# Altium integrated library Maxim Digital Potentiometers.IntLib: 1045 symbols (part 36 of 42)
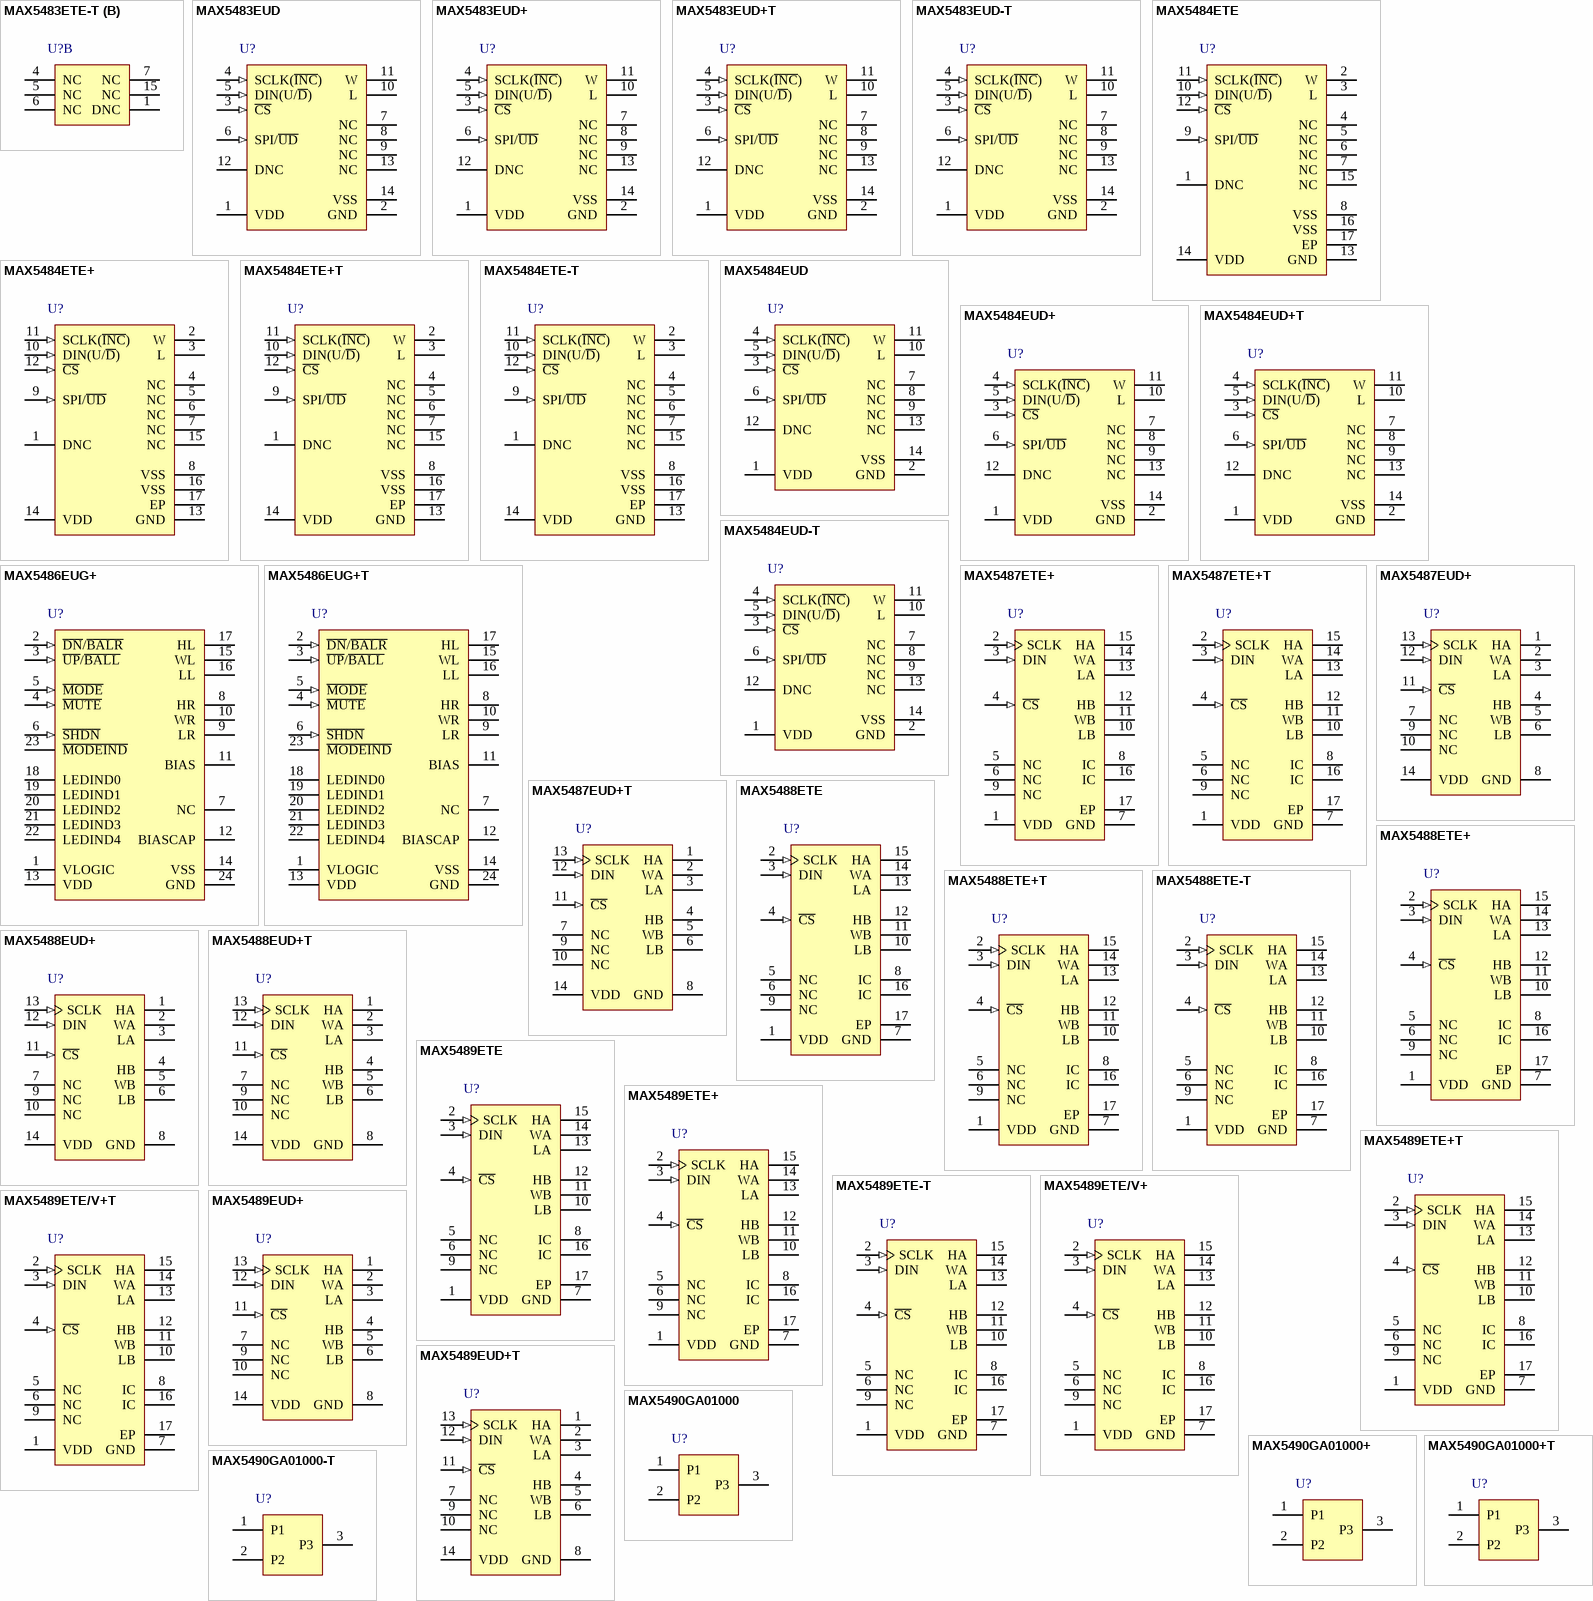
[diagram p64: symbols MAX5483ETE-T to MAX5490GA01000-T]

## MAX5486EUG+T
designator U?
Stereo Volume LED Display Drivers with Debounced Pushbutton Up/Down Control Interface, Volatile, Log Taper, 32 Steps, -40 to 85 degC, 24-pin TSSOP (U24+1), Pb-Free, Tape and Reel; PartNumber: MAX5486EUG+T; Industry Qualified: Automotive - General; DatasheetVersion: Rev. 0; PackageVersion: Rev. L, 07/2010; PackageReference: U24+1; PackageDescription: 24-Pin Thin Shrink Small-Outline Package (U24+1), Body 7.8 x 4.4 mm, Pitch 0.65 mm; Supplier 1: Digi-Key; Supplier Part Number 1: MAX5486EUG+T-ND; Supplier 2: Mouser; Supplier Part Number 2: 700-MAX5486EUGT; Applications: Audio Control, Automotive Back-Seat Multimedia ,Car Stereo ,Desktop Speakers ,Multimedia Docking Stations ,Portable Audio ,Set-Top Boxes ,Stereo Volume Control; Control Interface: Debounced Pushbutton Up/Down; Features: Buffered Wiper Outputs, Debounced Pushbutton Controls ,Five-Segment LED Display Driver; Mounting Technology: Surface Mount; Code_JEDEC: MO-153; ComponentLink1Description: Manufacturer URL; ComponentLink1URL: http://www.maximintegrated.com/; ComponentLink2Description: Datasheet; ComponentLink2URL: http://datasheets.maximintegrated.com/en/ds/MAX5486.pdf; ComponentLink3Description: Package Specification; ComponentLink3URL: http://pdfserv.maximintegrated.com/package_dwgs/21-0066.PDF
footprint MAXM-U24+1_N (SOP, 24-Leads, Body 7.8x4.4mm, Pitch 0.65mm, IPC Medium Density)
footprint MAXM-U24+1_L (SOP, 24-Leads, Body 7.8x4.4mm, Pitch 0.65mm, IPC High Density)
footprint MAXM-U24+1_M (SOP, 24-Leads, Body 7.8x4.4mm, Pitch 0.65mm, IPC Low Density)
pins: 1 VLOGIC (power) "Digital Logic Power Supply. Bypass VLOGIC to ground with a 0.1uF capacitor as close as possible to the device.", 2 ~{DN}/~{BALR} (in) "Active-Low Downward Volume/Balance Control. Press D\N\/B\A\L\R\ to decrease the volume in volume mode and move balance to the right in balance mode. D\N\/B\A\L\R\ is internally pulled high with a resistor to VLOGIC.", 3 ~{UP}/~{BALL} (in) "Active-Low Upward Volume/Balance Control. Press U\P\/B\A\L\L\ to increase the volume in volume mode and move balance to the left in balance mode. U\P\/B\A\L\L\ is internally pulled high with a resistor to VLOGIC.", 4 ~{MUTE} (in) "Active-Low Mute Input. Pull M\U\T\E\ low to toggle the wiper between the mute setting (see Table 1) and the current setting. M\U\T\E\ is internally pulled up to VLOGIC with a resistor.", 5 ~{MODE} (in) "Active-Low Volume/Balance Control Input. Each high-to-low transition on M\O\D\E\ toggles between the volume and balance modes. M\O\D\E\ is pulled high internally with a resistor to VLOGIC. On power-up, the MAX5486 is in (See Datasheet)", 6 ~{SHDN} (in) "Active-Low Shutdown Input. Drive S\H\D\N\ low to place the device in shutdown mode. In shutdown mode, the MAX5486 stores the last wiper settings. The wipers move to the L_ end of the resistor string. Terminating the shutdown (See Datasheet)", 7 NC "Internally connected. Leave unconnected.", 8 HR "Potentiometer R High Terminal", 9 LR "Potentiometer R Low Terminal", 10 WR "Potentiometer R Wiper Buffered Output", 11 BIAS "Midbias Voltage Output. VBIAS = (VDD + VSS) / 2; connect a 100pF capacitor from BIAS to VSS.", 12 BIASCAP "Bias Generator Bypass. Connect a 1uF filter capacitor from BIASCAP to VSS.", 13 VDD (power) "Analog Power Supply. Bypass VDD to ground with a 0.1uF capacitor as close as possible to the device.", 14 VSS (power) "Negative Power Supply. Bypass VSS to ground with a 0.1uF capacitor as close as possible to the device. Connect to GND for single supply operation.", 15 WL "Potentiometer L Wiper Buffered Output", 16 LL "Potentiometer L Low Terminal", 17 HL "Potentiometer L High Terminal", 18 LEDIND0 (oc) "LED Indicator Open-Drain Output 0-LED Indicator Open-Drain Output 4. Connect a 1Mohm resistor from LEDIND4 to VLOGIC to enable these LED inductor drivers. LEDIND0-LEDIND4 form a bar graph indication of the current volume or (See Datasheet)", 19 LEDIND1 (oc) "LED Indicator Open-Drain Output 0-LED Indicator Open-Drain Output 4. Connect a 1Mohm resistor from LEDIND4 to VLOGIC to enable these LED inductor drivers. LEDIND0-LEDIND4 form a bar graph indication of the current volume or (See Datasheet)", 20 LEDIND2 (oc) "LED Indicator Open-Drain Output 0-LED Indicator Open-Drain Output 4. Connect a 1Mohm resistor from LEDIND4 to VLOGIC to enable these LED inductor drivers. LEDIND0-LEDIND4 form a bar graph indication of the current volume or (See Datasheet)", 21 LEDIND3 (oc) "LED Indicator Open-Drain Output 0-LED Indicator Open-Drain Output 4. Connect a 1Mohm resistor from LEDIND4 to VLOGIC to enable these LED inductor drivers. LEDIND0-LEDIND4 form a bar graph indication of the current volume or (See Datasheet)", 22 LEDIND4 (oc) "LED Indicator Open-Drain Output 0-LED Indicator Open-Drain Output 4. Connect a 1Mohm resistor from LEDIND4 to VLOGIC to enable these LED inductor drivers. LEDIND0-LEDIND4 form a bar graph indication of the current volume or (See Datasheet)", 23 ~{MODEIND} (oc) "Active-Low Volume-Control/Balance-Control Mode-Indicator Open-Drain Output. Connect to an LED through a resistor to VLOGIC. When the LED is on, the MAX5486 is in balance-control mode. When the LED is off, the MAX5486 is in (See Datasheet)", 24 GND (power) "Ground"

## MAX5487ETE+
designator U?
Dual 10k Digital Potentiometer with 3-Wire Serial SPI Control Interface, Non-Volatile, Linear Taper, 256 Steps, -40 to 85 degC, 16-pin TQFN (T1633F+3), Pb-Free; PartNumber: MAX5487ETE+; DatasheetVersion: Rev. 4; PackageVersion: Rev. L, 04/2012; PackageReference: T1633F+3; PackageDescription: 16-Pin Thin Quad Flatpack, No Leads, Body 3 x 3 mm, Pitch 0.5 mm; Supplier 1: Digi-Key; Supplier Part Number 1: MAX5487ETE+-ND; Supplier 2: Mouser; Supplier Part Number 2: 700-MAX5487ETE; Control Interface: 3-Wire Serial SPI; Features: EEPROM Wiper Memory; Mounting Technology: Surface Mount; Code_JEDEC: MO220; ComponentLink1Description: Manufacturer URL; ComponentLink1URL: http://www.maximintegrated.com/; ComponentLink2Description: Datasheet; ComponentLink2URL: http://datasheets.maximintegrated.com/en/ds/MAX5487-MAX5489.pdf; ComponentLink3Description: Package Specification; ComponentLink3URL: http://pdfserv.maximintegrated.com/package_dwgs/21-0136.PDF
footprint MAXM-T1633F+3_N (QFN, 16-Leads, Body 3x3mm, Pitch 0.5mm, Thermal Pad 0.8x0.8mm, IPC Medium Density)
footprint MAXM-T1633F+3_L (QFN, 16-Leads, Body 3x3mm, Pitch 0.5mm, Thermal Pad 0.8x0.8mm, IPC High Density)
footprint MAXM-T1633F+3_M (QFN, 16-Leads, Body 3x3mm, Pitch 0.5mm, Thermal Pad 0.8x0.8mm, IPC Low Density)
pins: 1 VDD (power) "Power Supply. Bypass VDD to GND with a 0.1uF capacitor as close to the device as possible.", 2 SCLK (in) "Serial-Interface Clock Input", 3 DIN (in) "Serial-Interface Data Input", 4 ~{CS} (in) "Active-Low Chip-Select Digital Input", 5 NC "No Connection. Not internally connected.", 6 NC "No Connection. Not internally connected.", 7 GND (power) "Ground", 8 IC "Internally connected to EP. Leave unconnected.", 9 NC "No Connection. Not internally connected.", 10 LB "Low Terminal of Resistor B. The voltage at L can be greater than or less than the voltage at H. Current can flow into or out of L.", 11 WB "Wiper Terminal of Resistor B", 12 HB "High Terminal of Resistor B. The voltage at H can be greater than or less than the voltage at L. Current can flow into or out of H.", 13 LA "Low Terminal of Resistor A. The voltage at L can be greater than or less than the voltage at H. Current can flow into or out of L.", 14 WA "Wiper Terminal of Resistor A", 15 HA "High Terminal of Resistor A. The voltage at H can be greater than or less than the voltage at L. Current can flow into or out of H.", 16 IC "Internally connected to EP. Leave unconnected.", 17 EP "Exposed Pad (TQFN only). Internally connected to pins 8 and 16. Leave unconnected."

## MAX5487ETE+T
designator U?
Dual 10k Digital Potentiometer with 3-Wire Serial SPI Control Interface, Non-Volatile, Linear Taper, 256 Steps, -40 to 85 degC, 16-pin TQFN (T1633F+3), Pb-Free, Tape and Reel; PartNumber: MAX5487ETE+T; DatasheetVersion: Rev. 4; PackageVersion: Rev. L, 04/2012; PackageReference: T1633F+3; PackageDescription: 16-Pin Thin Quad Flatpack, No Leads, Body 3 x 3 mm, Pitch 0.5 mm; Supplier 1: Digi-Key; Supplier Part Number 1: MAX5487ETE+T-ND; Supplier 2: Mouser; Supplier Part Number 2: 700-MAX5487ETET; Control Interface: 3-Wire Serial SPI; Features: EEPROM Wiper Memory; Mounting Technology: Surface Mount; Code_JEDEC: MO220; ComponentLink1Description: Manufacturer URL; ComponentLink1URL: http://www.maximintegrated.com/; ComponentLink2Description: Datasheet; ComponentLink2URL: http://datasheets.maximintegrated.com/en/ds/MAX5487-MAX5489.pdf; ComponentLink3Description: Package Specification; ComponentLink3URL: http://pdfserv.maximintegrated.com/package_dwgs/21-0136.PDF
footprint MAXM-T1633F+3_N (QFN, 16-Leads, Body 3x3mm, Pitch 0.5mm, Thermal Pad 0.8x0.8mm, IPC Medium Density)
footprint MAXM-T1633F+3_L (QFN, 16-Leads, Body 3x3mm, Pitch 0.5mm, Thermal Pad 0.8x0.8mm, IPC High Density)
footprint MAXM-T1633F+3_M (QFN, 16-Leads, Body 3x3mm, Pitch 0.5mm, Thermal Pad 0.8x0.8mm, IPC Low Density)
pins: 1 VDD (power) "Power Supply. Bypass VDD to GND with a 0.1uF capacitor as close to the device as possible.", 2 SCLK (in) "Serial-Interface Clock Input", 3 DIN (in) "Serial-Interface Data Input", 4 ~{CS} (in) "Active-Low Chip-Select Digital Input", 5 NC "No Connection. Not internally connected.", 6 NC "No Connection. Not internally connected.", 7 GND (power) "Ground", 8 IC "Internally connected to EP. Leave unconnected.", 9 NC "No Connection. Not internally connected.", 10 LB "Low Terminal of Resistor B. The voltage at L can be greater than or less than the voltage at H. Current can flow into or out of L.", 11 WB "Wiper Terminal of Resistor B", 12 HB "High Terminal of Resistor B. The voltage at H can be greater than or less than the voltage at L. Current can flow into or out of H.", 13 LA "Low Terminal of Resistor A. The voltage at L can be greater than or less than the voltage at H. Current can flow into or out of L.", 14 WA "Wiper Terminal of Resistor A", 15 HA "High Terminal of Resistor A. The voltage at H can be greater than or less than the voltage at L. Current can flow into or out of H.", 16 IC "Internally connected to EP. Leave unconnected.", 17 EP "Exposed Pad (TQFN only). Internally connected to pins 8 and 16. Leave unconnected."

## MAX5487EUD+
designator U?
Dual 10k Digital Potentiometer with 3-Wire Serial SPI Control Interface, Non-Volatile, Linear Taper, 256 Steps, -40 to 85 degC, 14-pin TSSOP (U14+1), Pb-Free; PartNumber: MAX5487EUD+; DatasheetVersion: Rev. 4; PackageVersion: Rev. L, 07/2010; PackageReference: U14+1; PackageDescription: 14-Pin Thin Shrink Small-Outline Package (U14+1), Body 5 x 4.4 mm, Pitch 0.65 mm; Supplier 1: Digi-Key; Supplier Part Number 1: MAX5487EUD+-ND; Supplier 2: Newark; Supplier Part Number 2: 42M5634; Supplier 3: Mouser; Supplier Part Number 3: 700-MAX5487EUD; Control Interface: 3-Wire Serial SPI; Features: EEPROM Wiper Memory; Mounting Technology: Surface Mount; Code_JEDEC: MO-153; ComponentLink1Description: Manufacturer URL; ComponentLink1URL: http://www.maximintegrated.com/; ComponentLink2Description: Datasheet; ComponentLink2URL: http://datasheets.maximintegrated.com/en/ds/MAX5487-MAX5489.pdf; ComponentLink3Description: Package Specification; ComponentLink3URL: http://pdfserv.maximintegrated.com/package_dwgs/21-0066.PDF
footprint MAXM-U14+1_N (SOP, 14-Leads, Body 5x4.4mm, Pitch 0.65mm, IPC Medium Density)
footprint MAXM-U14+1_L (SOP, 14-Leads, Body 5x4.4mm, Pitch 0.65mm, IPC High Density)
footprint MAXM-U14+1_M (SOP, 14-Leads, Body 5x4.4mm, Pitch 0.65mm, IPC Low Density)
pins: 1 HA "High Terminal of Resistor A. The voltage at H can be greater than or less than the voltage at L. Current can flow into or out of H.", 2 WA "Wiper Terminal of Resistor A", 3 LA "Low Terminal of Resistor A. The voltage at L can be greater than or less than the voltage at H. Current can flow into or out of L.", 4 HB "High Terminal of Resistor B. The voltage at H can be greater than or less than the voltage at L. Current can flow into or out of H.", 5 WB "Wiper Terminal of Resistor B", 6 LB "Low Terminal of Resistor B. The voltage at L can be greater than or less than the voltage at H. Current can flow into or out of L", 7 NC "No Connection. Not internally connected", 8 GND (power) "Ground", 9 NC "No Connection. Not internally connected", 10 NC "No Connection. Not internally connected", 11 ~{CS} (in) "Active-Low Chip-Select Digital Input", 12 DIN (in) "Serial-Interface Data Input", 13 SCLK (in) "Serial-Interface Clock Input", 14 VDD (power) "Power Supply. Bypass VDD to GND with a 0.1µF capacitor as close to the device as possible."

## MAX5487EUD+T
designator U?
Dual 10k Digital Potentiometer with 3-Wire Serial SPI Control Interface, Non-Volatile, Linear Taper, 256 Steps, -40 to 85 degC, 14-pin TSSOP (U14+1), Pb-Free, Tape and Reel; PartNumber: MAX5487EUD+T; DatasheetVersion: Rev. 4; PackageVersion: Rev. L, 07/2010; PackageReference: U14+1; PackageDescription: 14-Pin Thin Shrink Small-Outline Package (U14+1), Body 5 x 4.4 mm, Pitch 0.65 mm; Supplier 1: Digi-Key; Supplier Part Number 1: MAX5487EUD+T-ND; Supplier 2: Mouser; Supplier Part Number 2: 700-MAX5487EUDT; Control Interface: 3-Wire Serial SPI; Features: EEPROM Wiper Memory; Mounting Technology: Surface Mount; Code_JEDEC: MO-153; ComponentLink1Description: Manufacturer URL; ComponentLink1URL: http://www.maximintegrated.com/; ComponentLink2Description: Datasheet; ComponentLink2URL: http://datasheets.maximintegrated.com/en/ds/MAX5487-MAX5489.pdf; ComponentLink3Description: Package Specification; ComponentLink3URL: http://pdfserv.maximintegrated.com/package_dwgs/21-0066.PDF
footprint MAXM-U14+1_N (SOP, 14-Leads, Body 5x4.4mm, Pitch 0.65mm, IPC Medium Density)
footprint MAXM-U14+1_L (SOP, 14-Leads, Body 5x4.4mm, Pitch 0.65mm, IPC High Density)
footprint MAXM-U14+1_M (SOP, 14-Leads, Body 5x4.4mm, Pitch 0.65mm, IPC Low Density)
pins: 1 HA "High Terminal of Resistor A. The voltage at H can be greater than or less than the voltage at L. Current can flow into or out of H.", 2 WA "Wiper Terminal of Resistor A", 3 LA "Low Terminal of Resistor A. The voltage at L can be greater than or less than the voltage at H. Current can flow into or out of L.", 4 HB "High Terminal of Resistor B. The voltage at H can be greater than or less than the voltage at L. Current can flow into or out of H.", 5 WB "Wiper Terminal of Resistor B", 6 LB "Low Terminal of Resistor B. The voltage at L can be greater than or less than the voltage at H. Current can flow into or out of L", 7 NC "No Connection. Not internally connected", 8 GND (power) "Ground", 9 NC "No Connection. Not internally connected", 10 NC "No Connection. Not internally connected", 11 ~{CS} (in) "Active-Low Chip-Select Digital Input", 12 DIN (in) "Serial-Interface Data Input", 13 SCLK (in) "Serial-Interface Clock Input", 14 VDD (power) "Power Supply. Bypass VDD to GND with a 0.1µF capacitor as close to the device as possible."

## MAX5488ETE
designator U?
Dual 50k Digital Potentiometer with 3-Wire Serial SPI Control Interface, Non-Volatile, Linear Taper, 256 Steps, -40 to 85 degC, 16-pin TQFN (T1633F-3); PartNumber: MAX5488ETE; DatasheetVersion: Rev. 4; PackageVersion: Rev. L, 04/2012; PackageReference: T1633F-3; PackageDescription: 16-Pin Thin Quad Flatpack, No Leads, Body 3 x 3 mm, Pitch 0.5 mm; Supplier 1: Mouser; Supplier Part Number 1: N/A; Control Interface: 3-Wire Serial SPI; Features: EEPROM Wiper Memory; Mounting Technology: Surface Mount; Code_JEDEC: MO220; ComponentLink1Description: Manufacturer URL; ComponentLink1URL: http://www.maximintegrated.com/; ComponentLink2Description: Datasheet; ComponentLink2URL: http://datasheets.maximintegrated.com/en/ds/MAX5487-MAX5489.pdf; ComponentLink3Description: Package Specification; ComponentLink3URL: http://pdfserv.maximintegrated.com/package_dwgs/21-0136.PDF
footprint MAXM-T1633F-3_N (QFN, 16-Leads, Body 3x3mm, Pitch 0.5mm, Thermal Pad 0.8x0.8mm, IPC Medium Density)
footprint MAXM-T1633F-3_L (QFN, 16-Leads, Body 3x3mm, Pitch 0.5mm, Thermal Pad 0.8x0.8mm, IPC High Density)
footprint MAXM-T1633F-3_M (QFN, 16-Leads, Body 3x3mm, Pitch 0.5mm, Thermal Pad 0.8x0.8mm, IPC Low Density)
pins: 1 VDD (power) "Power Supply. Bypass VDD to GND with a 0.1uF capacitor as close to the device as possible.", 2 SCLK (in) "Serial-Interface Clock Input", 3 DIN (in) "Serial-Interface Data Input", 4 ~{CS} (in) "Active-Low Chip-Select Digital Input", 5 NC "No Connection. Not internally connected.", 6 NC "No Connection. Not internally connected.", 7 GND (power) "Ground", 8 IC "Internally connected to EP. Leave unconnected.", 9 NC "No Connection. Not internally connected.", 10 LB "Low Terminal of Resistor B. The voltage at L can be greater than or less than the voltage at H. Current can flow into or out of L.", 11 WB "Wiper Terminal of Resistor B", 12 HB "High Terminal of Resistor B. The voltage at H can be greater than or less than the voltage at L. Current can flow into or out of H.", 13 LA "Low Terminal of Resistor A. The voltage at L can be greater than or less than the voltage at H. Current can flow into or out of L.", 14 WA "Wiper Terminal of Resistor A", 15 HA "High Terminal of Resistor A. The voltage at H can be greater than or less than the voltage at L. Current can flow into or out of H.", 16 IC "Internally connected to EP. Leave unconnected.", 17 EP "Exposed Pad (TQFN only). Internally connected to pins 8 and 16. Leave unconnected."

## MAX5488ETE+
designator U?
Dual 50k Digital Potentiometer with 3-Wire Serial SPI Control Interface, Non-Volatile, Linear Taper, 256 Steps, -40 to 85 degC, 16-pin TQFN (T1633F+3), Pb-Free; PartNumber: MAX5488ETE+; DatasheetVersion: Rev. 4; PackageVersion: Rev. L, 04/2012; PackageReference: T1633F+3; PackageDescription: 16-Pin Thin Quad Flatpack, No Leads, Body 3 x 3 mm, Pitch 0.5 mm; Supplier 1: Digi-Key; Supplier Part Number 1: MAX5488ETE+-ND; Supplier 2: Mouser; Supplier Part Number 2: 700-MAX5488ETE; Control Interface: 3-Wire Serial SPI; Features: EEPROM Wiper Memory; Mounting Technology: Surface Mount; Code_JEDEC: MO220; ComponentLink1Description: Manufacturer URL; ComponentLink1URL: http://www.maximintegrated.com/; ComponentLink2Description: Datasheet; ComponentLink2URL: http://datasheets.maximintegrated.com/en/ds/MAX5487-MAX5489.pdf; ComponentLink3Description: Package Specification; ComponentLink3URL: http://pdfserv.maximintegrated.com/package_dwgs/21-0136.PDF
footprint MAXM-T1633F+3_N (QFN, 16-Leads, Body 3x3mm, Pitch 0.5mm, Thermal Pad 0.8x0.8mm, IPC Medium Density)
footprint MAXM-T1633F+3_L (QFN, 16-Leads, Body 3x3mm, Pitch 0.5mm, Thermal Pad 0.8x0.8mm, IPC High Density)
footprint MAXM-T1633F+3_M (QFN, 16-Leads, Body 3x3mm, Pitch 0.5mm, Thermal Pad 0.8x0.8mm, IPC Low Density)
pins: 1 VDD (power) "Power Supply. Bypass VDD to GND with a 0.1uF capacitor as close to the device as possible.", 2 SCLK (in) "Serial-Interface Clock Input", 3 DIN (in) "Serial-Interface Data Input", 4 ~{CS} (in) "Active-Low Chip-Select Digital Input", 5 NC "No Connection. Not internally connected.", 6 NC "No Connection. Not internally connected.", 7 GND (power) "Ground", 8 IC "Internally connected to EP. Leave unconnected.", 9 NC "No Connection. Not internally connected.", 10 LB "Low Terminal of Resistor B. The voltage at L can be greater than or less than the voltage at H. Current can flow into or out of L.", 11 WB "Wiper Terminal of Resistor B", 12 HB "High Terminal of Resistor B. The voltage at H can be greater than or less than the voltage at L. Current can flow into or out of H.", 13 LA "Low Terminal of Resistor A. The voltage at L can be greater than or less than the voltage at H. Current can flow into or out of L.", 14 WA "Wiper Terminal of Resistor A", 15 HA "High Terminal of Resistor A. The voltage at H can be greater than or less than the voltage at L. Current can flow into or out of H.", 16 IC "Internally connected to EP. Leave unconnected.", 17 EP "Exposed Pad (TQFN only). Internally connected to pins 8 and 16. Leave unconnected."

## MAX5488ETE+T
designator U?
Dual 50k Digital Potentiometer with 3-Wire Serial SPI Control Interface, Non-Volatile, Linear Taper, 256 Steps, -40 to 85 degC, 16-pin TQFN (T1633F+3), Pb-Free, Tape and Reel; PartNumber: MAX5488ETE+T; DatasheetVersion: Rev. 4; PackageVersion: Rev. L, 04/2012; PackageReference: T1633F+3; PackageDescription: 16-Pin Thin Quad Flatpack, No Leads, Body 3 x 3 mm, Pitch 0.5 mm; Supplier 1: Digi-Key; Supplier Part Number 1: MAX5488ETE+T-ND; Supplier 2: Mouser; Supplier Part Number 2: 700-MAX5488ETET; Control Interface: 3-Wire Serial SPI; Features: EEPROM Wiper Memory; Mounting Technology: Surface Mount; Code_JEDEC: MO220; ComponentLink1Description: Manufacturer URL; ComponentLink1URL: http://www.maximintegrated.com/; ComponentLink2Description: Datasheet; ComponentLink2URL: http://datasheets.maximintegrated.com/en/ds/MAX5487-MAX5489.pdf; ComponentLink3Description: Package Specification; ComponentLink3URL: http://pdfserv.maximintegrated.com/package_dwgs/21-0136.PDF
footprint MAXM-T1633F+3_N (QFN, 16-Leads, Body 3x3mm, Pitch 0.5mm, Thermal Pad 0.8x0.8mm, IPC Medium Density)
footprint MAXM-T1633F+3_L (QFN, 16-Leads, Body 3x3mm, Pitch 0.5mm, Thermal Pad 0.8x0.8mm, IPC High Density)
footprint MAXM-T1633F+3_M (QFN, 16-Leads, Body 3x3mm, Pitch 0.5mm, Thermal Pad 0.8x0.8mm, IPC Low Density)
pins: 1 VDD (power) "Power Supply. Bypass VDD to GND with a 0.1uF capacitor as close to the device as possible.", 2 SCLK (in) "Serial-Interface Clock Input", 3 DIN (in) "Serial-Interface Data Input", 4 ~{CS} (in) "Active-Low Chip-Select Digital Input", 5 NC "No Connection. Not internally connected.", 6 NC "No Connection. Not internally connected.", 7 GND (power) "Ground", 8 IC "Internally connected to EP. Leave unconnected.", 9 NC "No Connection. Not internally connected.", 10 LB "Low Terminal of Resistor B. The voltage at L can be greater than or less than the voltage at H. Current can flow into or out of L.", 11 WB "Wiper Terminal of Resistor B", 12 HB "High Terminal of Resistor B. The voltage at H can be greater than or less than the voltage at L. Current can flow into or out of H.", 13 LA "Low Terminal of Resistor A. The voltage at L can be greater than or less than the voltage at H. Current can flow into or out of L.", 14 WA "Wiper Terminal of Resistor A", 15 HA "High Terminal of Resistor A. The voltage at H can be greater than or less than the voltage at L. Current can flow into or out of H.", 16 IC "Internally connected to EP. Leave unconnected.", 17 EP "Exposed Pad (TQFN only). Internally connected to pins 8 and 16. Leave unconnected."

## MAX5488ETE-T
designator U?
Dual 50k Digital Potentiometer with 3-Wire Serial SPI Control Interface, Non-Volatile, Linear Taper, 256 Steps, -40 to 85 degC, 16-pin TQFN (T1633F-3), Tape and Reel; PartNumber: MAX5488ETE-T; DatasheetVersion: Rev. 4; PackageVersion: Rev. L, 04/2012; PackageReference: T1633F-3; PackageDescription: 16-Pin Thin Quad Flatpack, No Leads, Body 3 x 3 mm, Pitch 0.5 mm; Supplier 1: Mouser; Supplier Part Number 1: N/A; Control Interface: 3-Wire Serial SPI; Features: EEPROM Wiper Memory; Mounting Technology: Surface Mount; Code_JEDEC: MO220; ComponentLink1Description: Manufacturer URL; ComponentLink1URL: http://www.maximintegrated.com/; ComponentLink2Description: Datasheet; ComponentLink2URL: http://datasheets.maximintegrated.com/en/ds/MAX5487-MAX5489.pdf; ComponentLink3Description: Package Specification; ComponentLink3URL: http://pdfserv.maximintegrated.com/package_dwgs/21-0136.PDF
footprint MAXM-T1633F-3_N (QFN, 16-Leads, Body 3x3mm, Pitch 0.5mm, Thermal Pad 0.8x0.8mm, IPC Medium Density)
footprint MAXM-T1633F-3_L (QFN, 16-Leads, Body 3x3mm, Pitch 0.5mm, Thermal Pad 0.8x0.8mm, IPC High Density)
footprint MAXM-T1633F-3_M (QFN, 16-Leads, Body 3x3mm, Pitch 0.5mm, Thermal Pad 0.8x0.8mm, IPC Low Density)
pins: 1 VDD (power) "Power Supply. Bypass VDD to GND with a 0.1uF capacitor as close to the device as possible.", 2 SCLK (in) "Serial-Interface Clock Input", 3 DIN (in) "Serial-Interface Data Input", 4 ~{CS} (in) "Active-Low Chip-Select Digital Input", 5 NC "No Connection. Not internally connected.", 6 NC "No Connection. Not internally connected.", 7 GND (power) "Ground", 8 IC "Internally connected to EP. Leave unconnected.", 9 NC "No Connection. Not internally connected.", 10 LB "Low Terminal of Resistor B. The voltage at L can be greater than or less than the voltage at H. Current can flow into or out of L.", 11 WB "Wiper Terminal of Resistor B", 12 HB "High Terminal of Resistor B. The voltage at H can be greater than or less than the voltage at L. Current can flow into or out of H.", 13 LA "Low Terminal of Resistor A. The voltage at L can be greater than or less than the voltage at H. Current can flow into or out of L.", 14 WA "Wiper Terminal of Resistor A", 15 HA "High Terminal of Resistor A. The voltage at H can be greater than or less than the voltage at L. Current can flow into or out of H.", 16 IC "Internally connected to EP. Leave unconnected.", 17 EP "Exposed Pad (TQFN only). Internally connected to pins 8 and 16. Leave unconnected."

## MAX5488EUD+
designator U?
Dual 50k Digital Potentiometer with 3-Wire Serial SPI Control Interface, Non-Volatile, Linear Taper, 256 Steps, -40 to 85 degC, 14-pin TSSOP (U14+1), Pb-Free; PartNumber: MAX5488EUD+; DatasheetVersion: Rev. 4; PackageVersion: Rev. L, 07/2010; PackageReference: U14+1; PackageDescription: 14-Pin Thin Shrink Small-Outline Package (U14+1), Body 5 x 4.4 mm, Pitch 0.65 mm; Supplier 1: Digi-Key; Supplier Part Number 1: MAX5488EUD+-ND; Supplier 2: Mouser; Supplier Part Number 2: 700-MAX5488EUD; Control Interface: 3-Wire Serial SPI; Features: EEPROM Wiper Memory; Mounting Technology: Surface Mount; Code_JEDEC: MO-153; ComponentLink1Description: Manufacturer URL; ComponentLink1URL: http://www.maximintegrated.com/; ComponentLink2Description: Datasheet; ComponentLink2URL: http://datasheets.maximintegrated.com/en/ds/MAX5487-MAX5489.pdf; ComponentLink3Description: Package Specification; ComponentLink3URL: http://pdfserv.maximintegrated.com/package_dwgs/21-0066.PDF
footprint MAXM-U14+1_N (SOP, 14-Leads, Body 5x4.4mm, Pitch 0.65mm, IPC Medium Density)
footprint MAXM-U14+1_L (SOP, 14-Leads, Body 5x4.4mm, Pitch 0.65mm, IPC High Density)
footprint MAXM-U14+1_M (SOP, 14-Leads, Body 5x4.4mm, Pitch 0.65mm, IPC Low Density)
pins: 1 HA "High Terminal of Resistor A. The voltage at H can be greater than or less than the voltage at L. Current can flow into or out of H.", 2 WA "Wiper Terminal of Resistor A", 3 LA "Low Terminal of Resistor A. The voltage at L can be greater than or less than the voltage at H. Current can flow into or out of L.", 4 HB "High Terminal of Resistor B. The voltage at H can be greater than or less than the voltage at L. Current can flow into or out of H.", 5 WB "Wiper Terminal of Resistor B", 6 LB "Low Terminal of Resistor B. The voltage at L can be greater than or less than the voltage at H. Current can flow into or out of L", 7 NC "No Connection. Not internally connected", 8 GND (power) "Ground", 9 NC "No Connection. Not internally connected", 10 NC "No Connection. Not internally connected", 11 ~{CS} (in) "Active-Low Chip-Select Digital Input", 12 DIN (in) "Serial-Interface Data Input", 13 SCLK (in) "Serial-Interface Clock Input", 14 VDD (power) "Power Supply. Bypass VDD to GND with a 0.1µF capacitor as close to the device as possible."

## MAX5488EUD+T
designator U?
Dual 50k Digital Potentiometer with 3-Wire Serial SPI Control Interface, Non-Volatile, Linear Taper, 256 Steps, -40 to 85 degC, 14-pin TSSOP (U14+1), Pb-Free, Tape and Reel; PartNumber: MAX5488EUD+T; DatasheetVersion: Rev. 4; PackageVersion: Rev. L, 07/2010; PackageReference: U14+1; PackageDescription: 14-Pin Thin Shrink Small-Outline Package (U14+1), Body 5 x 4.4 mm, Pitch 0.65 mm; Supplier 1: Digi-Key; Supplier Part Number 1: MAX5488EUD+T-ND; Supplier 2: Mouser; Supplier Part Number 2: 700-MAX5488EUDT; Control Interface: 3-Wire Serial SPI; Features: EEPROM Wiper Memory; Mounting Technology: Surface Mount; Code_JEDEC: MO-153; ComponentLink1Description: Manufacturer URL; ComponentLink1URL: http://www.maximintegrated.com/; ComponentLink2Description: Datasheet; ComponentLink2URL: http://datasheets.maximintegrated.com/en/ds/MAX5487-MAX5489.pdf; ComponentLink3Description: Package Specification; ComponentLink3URL: http://pdfserv.maximintegrated.com/package_dwgs/21-0066.PDF
footprint MAXM-U14+1_N (SOP, 14-Leads, Body 5x4.4mm, Pitch 0.65mm, IPC Medium Density)
footprint MAXM-U14+1_L (SOP, 14-Leads, Body 5x4.4mm, Pitch 0.65mm, IPC High Density)
footprint MAXM-U14+1_M (SOP, 14-Leads, Body 5x4.4mm, Pitch 0.65mm, IPC Low Density)
pins: 1 HA "High Terminal of Resistor A. The voltage at H can be greater than or less than the voltage at L. Current can flow into or out of H.", 2 WA "Wiper Terminal of Resistor A", 3 LA "Low Terminal of Resistor A. The voltage at L can be greater than or less than the voltage at H. Current can flow into or out of L.", 4 HB "High Terminal of Resistor B. The voltage at H can be greater than or less than the voltage at L. Current can flow into or out of H.", 5 WB "Wiper Terminal of Resistor B", 6 LB "Low Terminal of Resistor B. The voltage at L can be greater than or less than the voltage at H. Current can flow into or out of L", 7 NC "No Connection. Not internally connected", 8 GND (power) "Ground", 9 NC "No Connection. Not internally connected", 10 NC "No Connection. Not internally connected", 11 ~{CS} (in) "Active-Low Chip-Select Digital Input", 12 DIN (in) "Serial-Interface Data Input", 13 SCLK (in) "Serial-Interface Clock Input", 14 VDD (power) "Power Supply. Bypass VDD to GND with a 0.1µF capacitor as close to the device as possible."

## MAX5489ETE
designator U?
Dual 100k Digital Potentiometer with 3-Wire Serial SPI Control Interface, Non-Volatile, Linear Taper, 256 Steps, -40 to 85 degC, 16-pin TQFN (T1633F-3); PartNumber: MAX5489ETE; Industry Qualified: Automotive - AECQ100, Automotive - General; DatasheetVersion: Rev. 4; PackageVersion: Rev. L, 04/2012; PackageReference: T1633F-3; PackageDescription: 16-Pin Thin Quad Flatpack, No Leads, Body 3 x 3 mm, Pitch 0.5 mm; Supplier 1: Mouser; Supplier Part Number 1: N/A; Control Interface: 3-Wire Serial SPI; Features: EEPROM Wiper Memory; Mounting Technology: Surface Mount; Code_JEDEC: MO220; ComponentLink1Description: Manufacturer URL; ComponentLink1URL: http://www.maximintegrated.com/; ComponentLink2Description: Datasheet; ComponentLink2URL: http://datasheets.maximintegrated.com/en/ds/MAX5487-MAX5489.pdf; ComponentLink3Description: Package Specification; ComponentLink3URL: http://pdfserv.maximintegrated.com/package_dwgs/21-0136.PDF
footprint MAXM-T1633F-3_N (QFN, 16-Leads, Body 3x3mm, Pitch 0.5mm, Thermal Pad 0.8x0.8mm, IPC Medium Density)
footprint MAXM-T1633F-3_L (QFN, 16-Leads, Body 3x3mm, Pitch 0.5mm, Thermal Pad 0.8x0.8mm, IPC High Density)
footprint MAXM-T1633F-3_M (QFN, 16-Leads, Body 3x3mm, Pitch 0.5mm, Thermal Pad 0.8x0.8mm, IPC Low Density)
pins: 1 VDD (power) "Power Supply. Bypass VDD to GND with a 0.1uF capacitor as close to the device as possible.", 2 SCLK (in) "Serial-Interface Clock Input", 3 DIN (in) "Serial-Interface Data Input", 4 ~{CS} (in) "Active-Low Chip-Select Digital Input", 5 NC "No Connection. Not internally connected.", 6 NC "No Connection. Not internally connected.", 7 GND (power) "Ground", 8 IC "Internally connected to EP. Leave unconnected.", 9 NC "No Connection. Not internally connected.", 10 LB "Low Terminal of Resistor B. The voltage at L can be greater than or less than the voltage at H. Current can flow into or out of L.", 11 WB "Wiper Terminal of Resistor B", 12 HB "High Terminal of Resistor B. The voltage at H can be greater than or less than the voltage at L. Current can flow into or out of H.", 13 LA "Low Terminal of Resistor A. The voltage at L can be greater than or less than the voltage at H. Current can flow into or out of L.", 14 WA "Wiper Terminal of Resistor A", 15 HA "High Terminal of Resistor A. The voltage at H can be greater than or less than the voltage at L. Current can flow into or out of H.", 16 IC "Internally connected to EP. Leave unconnected.", 17 EP "Exposed Pad (TQFN only). Internally connected to pins 8 and 16. Leave unconnected."

## MAX5489ETE+
designator U?
Dual 100k Digital Potentiometer with 3-Wire Serial SPI Control Interface, Non-Volatile, Linear Taper, 256 Steps, -40 to 85 degC, 16-pin TQFN (T1633F+3), Pb-Free; PartNumber: MAX5489ETE+; Industry Qualified: Automotive - AECQ100, Automotive - General; DatasheetVersion: Rev. 4; PackageVersion: Rev. L, 04/2012; PackageReference: T1633F+3; PackageDescription: 16-Pin Thin Quad Flatpack, No Leads, Body 3 x 3 mm, Pitch 0.5 mm; Supplier 1: Digi-Key; Supplier Part Number 1: MAX5489ETE+-ND; Supplier 2: Mouser; Supplier Part Number 2: 700-MAX5489ETE; Control Interface: 3-Wire Serial SPI; Features: EEPROM Wiper Memory; Mounting Technology: Surface Mount; Code_JEDEC: MO220; ComponentLink1Description: Manufacturer URL; ComponentLink1URL: http://www.maximintegrated.com/; ComponentLink2Description: Datasheet; ComponentLink2URL: http://datasheets.maximintegrated.com/en/ds/MAX5487-MAX5489.pdf; ComponentLink3Description: Package Specification; ComponentLink3URL: http://pdfserv.maximintegrated.com/package_dwgs/21-0136.PDF
footprint MAXM-T1633F+3_N (QFN, 16-Leads, Body 3x3mm, Pitch 0.5mm, Thermal Pad 0.8x0.8mm, IPC Medium Density)
footprint MAXM-T1633F+3_L (QFN, 16-Leads, Body 3x3mm, Pitch 0.5mm, Thermal Pad 0.8x0.8mm, IPC High Density)
footprint MAXM-T1633F+3_M (QFN, 16-Leads, Body 3x3mm, Pitch 0.5mm, Thermal Pad 0.8x0.8mm, IPC Low Density)
pins: 1 VDD (power) "Power Supply. Bypass VDD to GND with a 0.1uF capacitor as close to the device as possible.", 2 SCLK (in) "Serial-Interface Clock Input", 3 DIN (in) "Serial-Interface Data Input", 4 ~{CS} (in) "Active-Low Chip-Select Digital Input", 5 NC "No Connection. Not internally connected.", 6 NC "No Connection. Not internally connected.", 7 GND (power) "Ground", 8 IC "Internally connected to EP. Leave unconnected.", 9 NC "No Connection. Not internally connected.", 10 LB "Low Terminal of Resistor B. The voltage at L can be greater than or less than the voltage at H. Current can flow into or out of L.", 11 WB "Wiper Terminal of Resistor B", 12 HB "High Terminal of Resistor B. The voltage at H can be greater than or less than the voltage at L. Current can flow into or out of H.", 13 LA "Low Terminal of Resistor A. The voltage at L can be greater than or less than the voltage at H. Current can flow into or out of L.", 14 WA "Wiper Terminal of Resistor A", 15 HA "High Terminal of Resistor A. The voltage at H can be greater than or less than the voltage at L. Current can flow into or out of H.", 16 IC "Internally connected to EP. Leave unconnected.", 17 EP "Exposed Pad (TQFN only). Internally connected to pins 8 and 16. Leave unconnected."

## MAX5489ETE+T
designator U?
Dual 100k Digital Potentiometer with 3-Wire Serial SPI Control Interface, Non-Volatile, Linear Taper, 256 Steps, -40 to 85 degC, 16-pin TQFN (T1633F+3), Pb-Free, Tape and Reel; PartNumber: MAX5489ETE+T; Industry Qualified: Automotive - AECQ100, Automotive - General; DatasheetVersion: Rev. 4; PackageVersion: Rev. L, 04/2012; PackageReference: T1633F+3; PackageDescription: 16-Pin Thin Quad Flatpack, No Leads, Body 3 x 3 mm, Pitch 0.5 mm; Supplier 1: Digi-Key; Supplier Part Number 1: MAX5489ETE+T-ND; Supplier 2: Mouser; Supplier Part Number 2: 700-MAX5489ETET; Control Interface: 3-Wire Serial SPI; Features: EEPROM Wiper Memory; Mounting Technology: Surface Mount; Code_JEDEC: MO220; ComponentLink1Description: Manufacturer URL; ComponentLink1URL: http://www.maximintegrated.com/; ComponentLink2Description: Datasheet; ComponentLink2URL: http://datasheets.maximintegrated.com/en/ds/MAX5487-MAX5489.pdf; ComponentLink3Description: Package Specification; ComponentLink3URL: http://pdfserv.maximintegrated.com/package_dwgs/21-0136.PDF
footprint MAXM-T1633F+3_N (QFN, 16-Leads, Body 3x3mm, Pitch 0.5mm, Thermal Pad 0.8x0.8mm, IPC Medium Density)
footprint MAXM-T1633F+3_L (QFN, 16-Leads, Body 3x3mm, Pitch 0.5mm, Thermal Pad 0.8x0.8mm, IPC High Density)
footprint MAXM-T1633F+3_M (QFN, 16-Leads, Body 3x3mm, Pitch 0.5mm, Thermal Pad 0.8x0.8mm, IPC Low Density)
pins: 1 VDD (power) "Power Supply. Bypass VDD to GND with a 0.1uF capacitor as close to the device as possible.", 2 SCLK (in) "Serial-Interface Clock Input", 3 DIN (in) "Serial-Interface Data Input", 4 ~{CS} (in) "Active-Low Chip-Select Digital Input", 5 NC "No Connection. Not internally connected.", 6 NC "No Connection. Not internally connected.", 7 GND (power) "Ground", 8 IC "Internally connected to EP. Leave unconnected.", 9 NC "No Connection. Not internally connected.", 10 LB "Low Terminal of Resistor B. The voltage at L can be greater than or less than the voltage at H. Current can flow into or out of L.", 11 WB "Wiper Terminal of Resistor B", 12 HB "High Terminal of Resistor B. The voltage at H can be greater than or less than the voltage at L. Current can flow into or out of H.", 13 LA "Low Terminal of Resistor A. The voltage at L can be greater than or less than the voltage at H. Current can flow into or out of L.", 14 WA "Wiper Terminal of Resistor A", 15 HA "High Terminal of Resistor A. The voltage at H can be greater than or less than the voltage at L. Current can flow into or out of H.", 16 IC "Internally connected to EP. Leave unconnected.", 17 EP "Exposed Pad (TQFN only). Internally connected to pins 8 and 16. Leave unconnected."

## MAX5489ETE-T
designator U?
Dual 100k Digital Potentiometer with 3-Wire Serial SPI Control Interface, Non-Volatile, Linear Taper, 256 Steps, -40 to 85 degC, 16-pin TQFN (T1633F-3), Tape and Reel; PartNumber: MAX5489ETE-T; Industry Qualified: Automotive - AECQ100, Automotive - General; DatasheetVersion: Rev. 4; PackageVersion: Rev. L, 04/2012; PackageReference: T1633F-3; PackageDescription: 16-Pin Thin Quad Flatpack, No Leads, Body 3 x 3 mm, Pitch 0.5 mm; Supplier 1: Mouser; Supplier Part Number 1: N/A; Control Interface: 3-Wire Serial SPI; Features: EEPROM Wiper Memory; Mounting Technology: Surface Mount; Code_JEDEC: MO220; ComponentLink1Description: Manufacturer URL; ComponentLink1URL: http://www.maximintegrated.com/; ComponentLink2Description: Datasheet; ComponentLink2URL: http://datasheets.maximintegrated.com/en/ds/MAX5487-MAX5489.pdf; ComponentLink3Description: Package Specification; ComponentLink3URL: http://pdfserv.maximintegrated.com/package_dwgs/21-0136.PDF
footprint MAXM-T1633F-3_N (QFN, 16-Leads, Body 3x3mm, Pitch 0.5mm, Thermal Pad 0.8x0.8mm, IPC Medium Density)
footprint MAXM-T1633F-3_L (QFN, 16-Leads, Body 3x3mm, Pitch 0.5mm, Thermal Pad 0.8x0.8mm, IPC High Density)
footprint MAXM-T1633F-3_M (QFN, 16-Leads, Body 3x3mm, Pitch 0.5mm, Thermal Pad 0.8x0.8mm, IPC Low Density)
pins: 1 VDD (power) "Power Supply. Bypass VDD to GND with a 0.1uF capacitor as close to the device as possible.", 2 SCLK (in) "Serial-Interface Clock Input", 3 DIN (in) "Serial-Interface Data Input", 4 ~{CS} (in) "Active-Low Chip-Select Digital Input", 5 NC "No Connection. Not internally connected.", 6 NC "No Connection. Not internally connected.", 7 GND (power) "Ground", 8 IC "Internally connected to EP. Leave unconnected.", 9 NC "No Connection. Not internally connected.", 10 LB "Low Terminal of Resistor B. The voltage at L can be greater than or less than the voltage at H. Current can flow into or out of L.", 11 WB "Wiper Terminal of Resistor B", 12 HB "High Terminal of Resistor B. The voltage at H can be greater than or less than the voltage at L. Current can flow into or out of H.", 13 LA "Low Terminal of Resistor A. The voltage at L can be greater than or less than the voltage at H. Current can flow into or out of L.", 14 WA "Wiper Terminal of Resistor A", 15 HA "High Terminal of Resistor A. The voltage at H can be greater than or less than the voltage at L. Current can flow into or out of H.", 16 IC "Internally connected to EP. Leave unconnected.", 17 EP "Exposed Pad (TQFN only). Internally connected to pins 8 and 16. Leave unconnected."

## MAX5489ETE/V+
designator U?
Dual 100k Digital Potentiometer with 3-Wire Serial SPI Control Interface, Non-Volatile, Linear Taper, 256 Steps, -40 to 85 degC, 16-pin TQFN (T1633F+3), Pb-Free,; PartNumber: MAX5489ETE/V+; Industry Qualified: Automotive - AECQ100, Automotive - General; DatasheetVersion: Rev. 4; PackageVersion: Rev. L, 04/2012; PackageReference: T1633F+3; PackageDescription: 16-Pin Thin Quad Flatpack, No Leads, Body 3 x 3 mm, Pitch 0.5 mm; Supplier 1: Mouser; Supplier Part Number 1: N/A; Control Interface: 3-Wire Serial SPI; Features: EEPROM Wiper Memory; Mounting Technology: Surface Mount; Code_JEDEC: MO220; ComponentLink1Description: Manufacturer URL; ComponentLink1URL: http://www.maximintegrated.com/; ComponentLink2Description: Datasheet; ComponentLink2URL: http://datasheets.maximintegrated.com/en/ds/MAX5487-MAX5489.pdf; ComponentLink3Description: Package Specification; ComponentLink3URL: http://pdfserv.maximintegrated.com/package_dwgs/21-0136.PDF
footprint MAXM-T1633F+3_N (QFN, 16-Leads, Body 3x3mm, Pitch 0.5mm, Thermal Pad 0.8x0.8mm, IPC Medium Density)
footprint MAXM-T1633F+3_L (QFN, 16-Leads, Body 3x3mm, Pitch 0.5mm, Thermal Pad 0.8x0.8mm, IPC High Density)
footprint MAXM-T1633F+3_M (QFN, 16-Leads, Body 3x3mm, Pitch 0.5mm, Thermal Pad 0.8x0.8mm, IPC Low Density)
pins: 1 VDD (power) "Power Supply. Bypass VDD to GND with a 0.1uF capacitor as close to the device as possible.", 2 SCLK (in) "Serial-Interface Clock Input", 3 DIN (in) "Serial-Interface Data Input", 4 ~{CS} (in) "Active-Low Chip-Select Digital Input", 5 NC "No Connection. Not internally connected.", 6 NC "No Connection. Not internally connected.", 7 GND (power) "Ground", 8 IC "Internally connected to EP. Leave unconnected.", 9 NC "No Connection. Not internally connected.", 10 LB "Low Terminal of Resistor B. The voltage at L can be greater than or less than the voltage at H. Current can flow into or out of L.", 11 WB "Wiper Terminal of Resistor B", 12 HB "High Terminal of Resistor B. The voltage at H can be greater than or less than the voltage at L. Current can flow into or out of H.", 13 LA "Low Terminal of Resistor A. The voltage at L can be greater than or less than the voltage at H. Current can flow into or out of L.", 14 WA "Wiper Terminal of Resistor A", 15 HA "High Terminal of Resistor A. The voltage at H can be greater than or less than the voltage at L. Current can flow into or out of H.", 16 IC "Internally connected to EP. Leave unconnected.", 17 EP "Exposed Pad (TQFN only). Internally connected to pins 8 and 16. Leave unconnected."

## MAX5489ETE/V+T
designator U?
Dual 100k Digital Potentiometer with 3-Wire Serial SPI Control Interface, Non-Volatile, Linear Taper, 256 Steps, -40 to 85 degC, 16-pin TQFN (T1633F+3), Pb-Free, Tape and Reel; PartNumber: MAX5489ETE/V+T; Industry Qualified: Automotive - AECQ100, Automotive - General; DatasheetVersion: Rev. 4; PackageVersion: Rev. L, 04/2012; PackageReference: T1633F+3; PackageDescription: 16-Pin Thin Quad Flatpack, No Leads, Body 3 x 3 mm, Pitch 0.5 mm; Supplier 1: Mouser; Supplier Part Number 1: N/A; Control Interface: 3-Wire Serial SPI; Features: EEPROM Wiper Memory; Mounting Technology: Surface Mount; Code_JEDEC: MO220; ComponentLink1Description: Manufacturer URL; ComponentLink1URL: http://www.maximintegrated.com/; ComponentLink2Description: Datasheet; ComponentLink2URL: http://datasheets.maximintegrated.com/en/ds/MAX5487-MAX5489.pdf; ComponentLink3Description: Package Specification; ComponentLink3URL: http://pdfserv.maximintegrated.com/package_dwgs/21-0136.PDF
footprint MAXM-T1633F+3_N (QFN, 16-Leads, Body 3x3mm, Pitch 0.5mm, Thermal Pad 0.8x0.8mm, IPC Medium Density)
footprint MAXM-T1633F+3_L (QFN, 16-Leads, Body 3x3mm, Pitch 0.5mm, Thermal Pad 0.8x0.8mm, IPC High Density)
footprint MAXM-T1633F+3_M (QFN, 16-Leads, Body 3x3mm, Pitch 0.5mm, Thermal Pad 0.8x0.8mm, IPC Low Density)
pins: 1 VDD (power) "Power Supply. Bypass VDD to GND with a 0.1uF capacitor as close to the device as possible.", 2 SCLK (in) "Serial-Interface Clock Input", 3 DIN (in) "Serial-Interface Data Input", 4 ~{CS} (in) "Active-Low Chip-Select Digital Input", 5 NC "No Connection. Not internally connected.", 6 NC "No Connection. Not internally connected.", 7 GND (power) "Ground", 8 IC "Internally connected to EP. Leave unconnected.", 9 NC "No Connection. Not internally connected.", 10 LB "Low Terminal of Resistor B. The voltage at L can be greater than or less than the voltage at H. Current can flow into or out of L.", 11 WB "Wiper Terminal of Resistor B", 12 HB "High Terminal of Resistor B. The voltage at H can be greater than or less than the voltage at L. Current can flow into or out of H.", 13 LA "Low Terminal of Resistor A. The voltage at L can be greater than or less than the voltage at H. Current can flow into or out of L.", 14 WA "Wiper Terminal of Resistor A", 15 HA "High Terminal of Resistor A. The voltage at H can be greater than or less than the voltage at L. Current can flow into or out of H.", 16 IC "Internally connected to EP. Leave unconnected.", 17 EP "Exposed Pad (TQFN only). Internally connected to pins 8 and 16. Leave unconnected."

## MAX5489EUD+
designator U?
Dual 100k Digital Potentiometer with 3-Wire Serial SPI Control Interface, Non-Volatile, Linear Taper, 256 Steps, -40 to 85 degC, 16-pin TSSOP (U14+1), Pb-Free; PartNumber: MAX5489EUD+; Industry Qualified: Automotive - AECQ100, Automotive - General; DatasheetVersion: Rev. 4; PackageVersion: Rev. L, 07/2010; PackageReference: U14+1; PackageDescription: 14-Pin Thin Shrink Small-Outline Package (U14+1), Body 5 x 4.4 mm, Pitch 0.65 mm; Supplier 1: Digi-Key; Supplier Part Number 1: MAX5489EUD+-ND; Supplier 2: Mouser; Supplier Part Number 2: 700-MAX5489EUD; Control Interface: 3-Wire Serial SPI; Features: EEPROM Wiper Memory; Mounting Technology: Surface Mount; Code_JEDEC: MO-153; ComponentLink1Description: Manufacturer URL; ComponentLink1URL: http://www.maximintegrated.com/; ComponentLink2Description: Datasheet; ComponentLink2URL: http://datasheets.maximintegrated.com/en/ds/MAX5487-MAX5489.pdf; ComponentLink3Description: Package Specification; ComponentLink3URL: http://pdfserv.maximintegrated.com/package_dwgs/21-0066.PDF
footprint MAXM-U14+1_N (SOP, 14-Leads, Body 5x4.4mm, Pitch 0.65mm, IPC Medium Density)
footprint MAXM-U14+1_L (SOP, 14-Leads, Body 5x4.4mm, Pitch 0.65mm, IPC High Density)
footprint MAXM-U14+1_M (SOP, 14-Leads, Body 5x4.4mm, Pitch 0.65mm, IPC Low Density)
pins: 1 HA "High Terminal of Resistor A. The voltage at H can be greater than or less than the voltage at L. Current can flow into or out of H.", 2 WA "Wiper Terminal of Resistor A", 3 LA "Low Terminal of Resistor A. The voltage at L can be greater than or less than the voltage at H. Current can flow into or out of L.", 4 HB "High Terminal of Resistor B. The voltage at H can be greater than or less than the voltage at L. Current can flow into or out of H.", 5 WB "Wiper Terminal of Resistor B", 6 LB "Low Terminal of Resistor B. The voltage at L can be greater than or less than the voltage at H. Current can flow into or out of L", 7 NC "No Connection. Not internally connected", 8 GND (power) "Ground", 9 NC "No Connection. Not internally connected", 10 NC "No Connection. Not internally connected", 11 ~{CS} (in) "Active-Low Chip-Select Digital Input", 12 DIN (in) "Serial-Interface Data Input", 13 SCLK (in) "Serial-Interface Clock Input", 14 VDD (power) "Power Supply. Bypass VDD to GND with a 0.1µF capacitor as close to the device as possible."